# Altium footprint library CONN_TBLOCK_8P25to15P0.PcbLib: 118 footprints (part 3 of 8)
Each footprint in its own frame and in the unit in brackets; x right, y up, seen from the top. Pads: shape width x height; smd on the part's side, far side on the other; paste and mask are expansions set on the pad; w line width, h text height; cw(c..) or ccw(c..) is an arc to the next point about the centre after c.
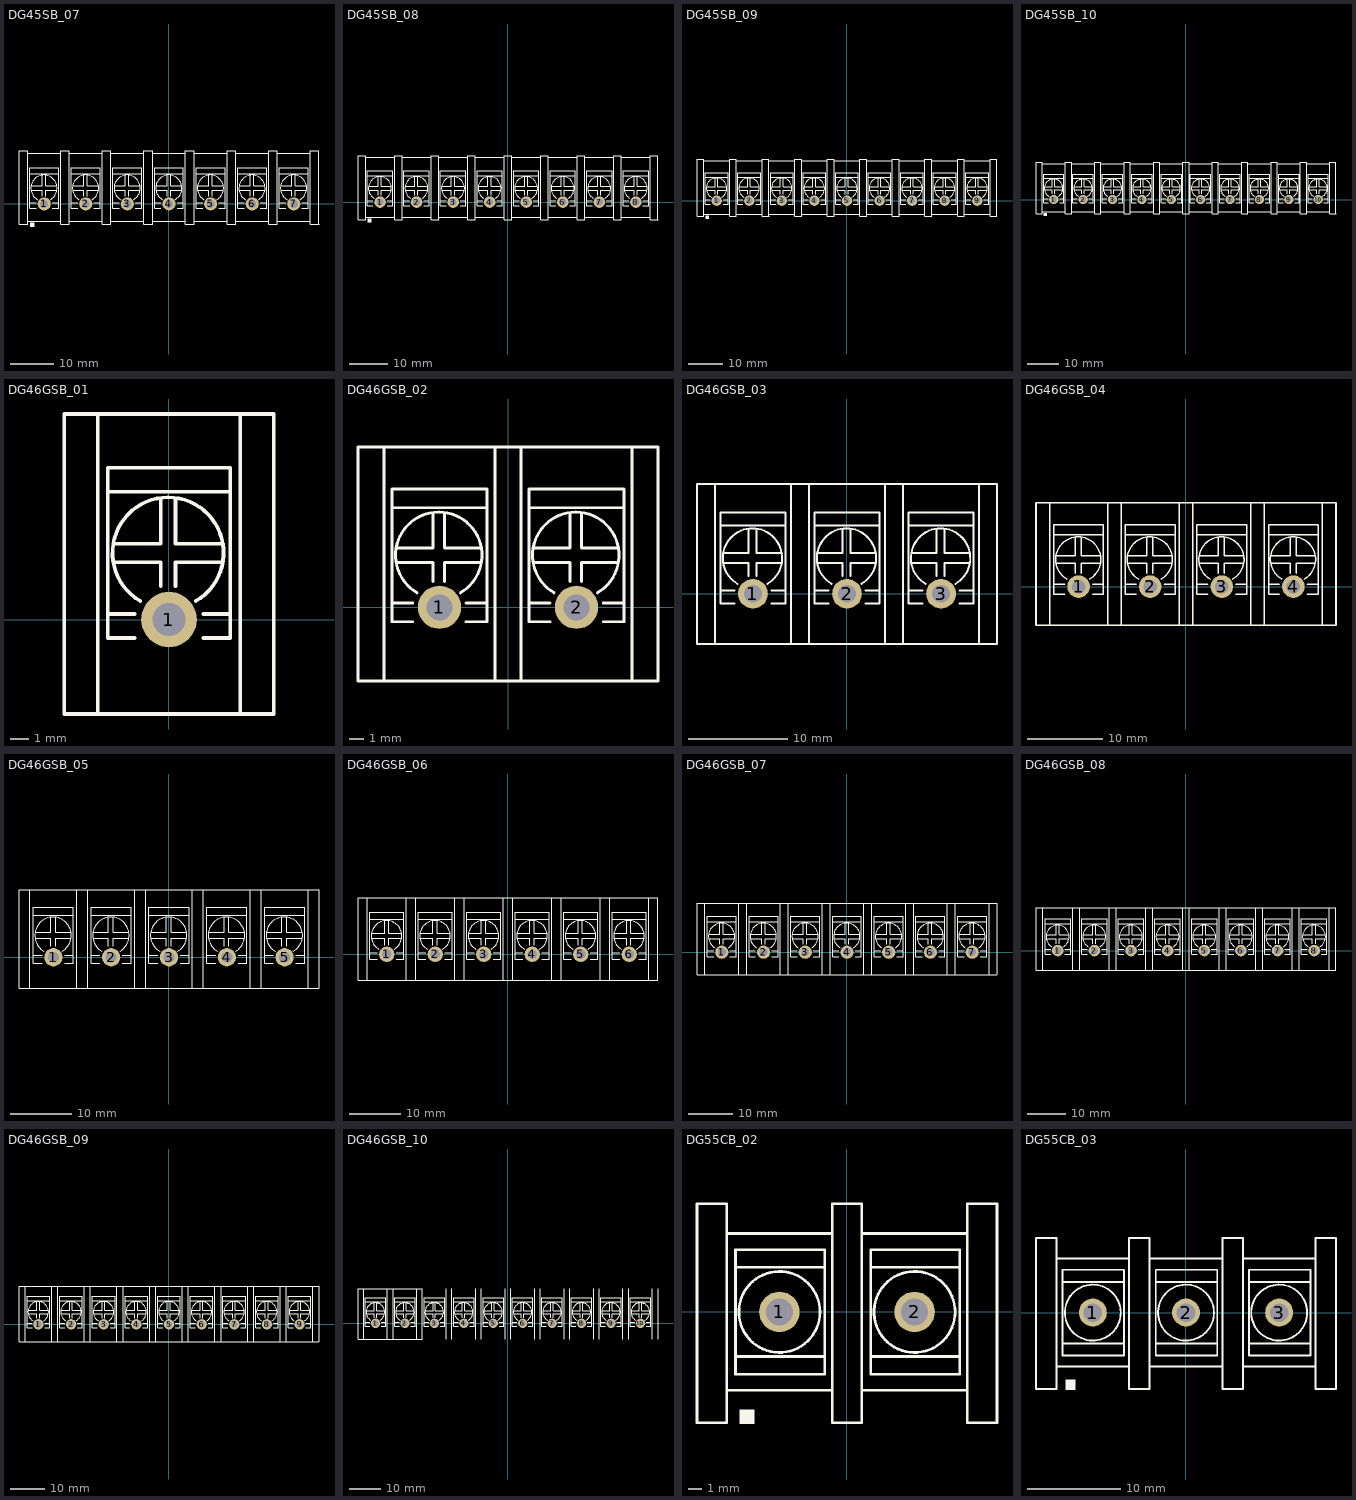
[diagram p2: the footprints below, top view; thin cyan lines are the x and y axes]

## DG45SB_07 [mm] "Terminal Block Screw, Pitch 9.5mm, 20A/300v"
height 20
pads (7):
  round 3 / inner round 3 / far side oval 3.5x5 hole 1.8: 1(-28.5,0) 2(-19,0) 3(-9.5,0) 4(0,0) 5(9.5,0) 6(19,0) 7(28.5,0)
Top Overlay:
  drawing of 166 lines, arcs and shapes, not listed
3D body "DG45S-03.STEP": height 18.5, standoff -4.99, extent -34.275,-4.5 -3.7,12
3D body "DG45S-03.STEP": height 18.5, standoff -4.99, extent -5.775,-4.5 24.8,12
3D body "DG45S-03.STEP": height 18.5, standoff -4.99, extent 3.725,-4.5 34.3,12

## DG45SB_08 [mm] "Terminal Block Screw, Pitch 9.5mm, 20A/300v"
height 20
pads (8):
  round 3 / inner round 3 / far side oval 3.5x5 hole 1.8: 1(-33.25,0) 2(-23.75,0) 3(-14.25,0) 4(-4.75,0) 5(4.75,0) 6(14.25,0) 7(23.75,0) 8(33.25,0)
Top Overlay:
  drawing of 189 lines, arcs and shapes, not listed
3D body "DG45S-03.STEP": height 18.5, standoff -4.99, extent -39.025,-4.5 -8.45,12
3D body "DG45S-03.STEP": height 18.5, standoff -4.99, extent -10.525,-4.5 20.05,12
3D body "DG45S-03.STEP": height 18.5, standoff -4.99, extent 8.475,-4.5 39.05,12

## DG45SB_09 [mm] "Terminal Block Screw, Pitch 9.5mm, 20A/300v"
height 20
pads (9):
  round 3 / inner round 3 / far side oval 3.5x5 hole 1.8: 1(-38,0) 2(-28.5,0) 3(-19,0) 4(-9.5,0) 5(0,0) 6(9.5,0) 7(19,0) 8(28.5,0) 9(38,0)
Top Overlay:
  drawing of 212 lines, arcs and shapes, not listed
3D body "DG45S-03.STEP": height 18.5, standoff -4.99, extent -43.775,-4.5 -13.2,12
3D body "DG45S-03.STEP": height 18.5, standoff -4.99, extent -15.275,-4.5 15.3,12
3D body "DG45S-03.STEP": height 18.5, standoff -4.99, extent 13.225,-4.5 43.8,12

## DG45SB_10 [mm] "Terminal Block Screw, Pitch 9.5mm, 20A/300v"
height 20
pads (10):
  round 3 / inner round 3 / far side oval 3.5x5 hole 1.8: 1(-42.75,0) 2(-33.25,0) 3(-23.75,0) 4(-14.25,0) 5(-4.75,0) 6(4.75,0) 7(14.25,0) 8(23.75,0) 9(33.25,0) 10(42.75,0)
Top Overlay:
  drawing of 235 lines, arcs and shapes, not listed
3D body "DG45S-03.STEP": height 18.5, standoff -4.99, extent -48.525,-4.5 -17.95,12
3D body "DG45S-03.STEP": height 18.5, standoff -4.99, extent -20.025,-4.5 10.55,12
3D body "DG45S-03.STEP": height 18.5, standoff -4.99, extent 8.475,-4.5 39.05,12
3D body "DG45S-03.STEP": height 18.5, standoff -4.99, extent 17.975,-4.5 48.55,12

## DG46GSB_01 [mm] "Terminal Block Screw, Pitch 9.5mm, 20A/300v, DG46GS-B,"
height 17
pads (1):
  round 3 / inner round 3 / far side oval 3.5x5 hole 1.8: 1(0,0)
Top Overlay:
  lines w0.2: -3.85,-5.1 -3.85,11.1 ; -3.3,0.3 -1.85,0.3 ; -3.3,6.9 3.3,6.9 ; -2.95,3.1 -0.45,3.1 -0.45,1.8 ; -2.95,4.1 -0.45,4.1 -0.45,6.5 ; -1.85,-1 -3.3,-1 -3.3,8.2 3.3,8.2 3.3,-1 1.85,-1 ; -1.55,1.002 cw(c-0.05,3.6) 1.45,1.002 ; 0.35,1.8 0.35,3.1 2.85,3.1 ; 0.35,6.5 0.35,4.1 2.85,4.1 ; 1.85,0.3 3.3,0.3 ; 3.85,-5.1 3.85,11.1 ; -5.65,-5.1 -5.65,11.1 5.65,11.1 5.65,-5.1 -5.65,-5.1
3D body "1-Pin - Terminal Block - 9.5mm Pitch.step": height 16.5, standoff -3.7, extent -5.502,-5 5.558,11

## DG46GSB_02 [mm] "Terminal Block Screw, Pitch 9.5mm, 20A/300v, DG46GS-B,"
height 17
pads (2):
  round 3 / inner round 3 / far side oval 3.5x5 hole 1.8: 1(-4.75,0) 2(4.75,0)
Top Overlay:
  lines w0.2: -8.6,-5.1 -8.6,11.1 ; -8.05,0.3 -6.6,0.3 ; -8.05,6.9 -1.45,6.9 ; -7.7,3.1 -5.2,3.1 -5.2,1.8 ; -7.7,4.1 -5.2,4.1 -5.2,6.5 ; -6.6,-1 -8.05,-1 -8.05,8.2 -1.45,8.2 -1.45,-1 -2.9,-1 ; -6.3,1.002 cw(c-4.8,3.6) -3.3,1.002 ; -4.4,1.8 -4.4,3.1 -1.9,3.1 ; -4.4,6.5 -4.4,4.1 -1.9,4.1 ; -2.9,0.3 -1.45,0.3 ; -0.9,-5.1 -0.9,11.1 ; 0.9,-5.1 0.9,11.1 ; 1.45,0.3 2.9,0.3 ; 1.45,6.9 8.05,6.9 ; 1.8,3.1 4.3,3.1 4.3,1.8 ; 1.8,4.1 4.3,4.1 4.3,6.5 ; 2.9,-1 1.45,-1 1.45,8.2 8.05,8.2 8.05,-1 6.6,-1 ; 3.2,1.002 cw(c4.7,3.6) 6.2,1.002 ; 5.1,1.8 5.1,3.1 7.6,3.1 ; 5.1,6.5 5.1,4.1 7.6,4.1 ; 6.6,0.3 8.05,0.3 ; 8.6,-5.1 8.6,11.1 ; -10.4,-5.1 -10.4,11.1 10.4,11.1 10.4,-5.1 -10.4,-5.1
3D body "2-Pin - Terminal Block - 9.5mm Pitch.step": height 16.5, standoff -3.7, extent -10.308,-5 10.308,11

## DG46GSB_03 [mm] "Terminal Block Screw, Pitch 9.5mm, 20A/300v, DG46GS-B,"
height 17
pads (3):
  round 3 / inner round 3 / far side oval 3.5x5 hole 1.8: 1(-9.5,0) 2(0,0) 3(9.5,0)
Top Overlay:
  lines w0.2: -13.35,-5.1 -13.35,11.1 ; -12.8,0.3 -11.35,0.3 ; -12.8,6.9 -6.2,6.9 ; -12.45,3.1 -9.95,3.1 -9.95,1.8 ; -12.45,4.1 -9.95,4.1 -9.95,6.5 ; -11.35,-1 -12.8,-1 -12.8,8.2 -6.2,8.2 -6.2,-1 -7.65,-1 ; -11.05,1.002 cw(c-9.55,3.6) -8.05,1.002 ; -9.15,1.8 -9.15,3.1 -6.65,3.1 ; -9.15,6.5 -9.15,4.1 -6.65,4.1 ; -7.65,0.3 -6.2,0.3 ; -5.65,-5.1 -5.65,11.1 ; -3.85,-5.1 -3.85,11.1 ; -3.3,0.3 -1.85,0.3 ; -3.3,6.9 3.3,6.9 ; -2.95,3.1 -0.45,3.1 -0.45,1.8 ; -2.95,4.1 -0.45,4.1 -0.45,6.5 ; -1.85,-1 -3.3,-1 -3.3,8.2 3.3,8.2 3.3,-1 1.85,-1 ; -1.55,1.002 cw(c-0.05,3.6) 1.45,1.002 ; 0.35,1.8 0.35,3.1 2.85,3.1 ; 0.35,6.5 0.35,4.1 2.85,4.1 ; 1.85,0.3 3.3,0.3 ; 3.85,-5.1 3.85,11.1 ; 5.65,-5.1 5.65,11.1 ; 6.2,0.3 7.65,0.3 ; 6.2,6.9 12.8,6.9 ; 6.55,3.1 9.05,3.1 9.05,1.8 ; 6.55,4.1 9.05,4.1 9.05,6.5 ; 7.65,-1 6.2,-1 6.2,8.2 12.8,8.2 12.8,-1 11.35,-1 ; 7.95,1.002 cw(c9.45,3.6) 10.95,1.002 ; 9.85,1.8 9.85,3.1 12.35,3.1 ; 9.85,6.5 9.85,4.1 12.35,4.1 ; 11.35,0.3 12.8,0.3 ; 13.35,-5.1 13.35,11.1 ; -15.15,-5.1 -15.15,11.1 15.15,11.1 15.15,-5.1 -15.15,-5.1
3D body "3-Pin - Terminal Block - 9.5mm Pitch.step": height 16.5, standoff -3.7, extent -15.112,-5 15.058,11

## DG46GSB_04 [mm] "Terminal Block Screw, Pitch 9.5mm, 20A/300v, DG46GS-B,"
height 17
pads (4):
  round 3 / inner round 3 / far side oval 3.5x5 hole 1.8: 1(-14.25,0) 2(-4.75,0) 3(4.75,0) 4(14.25,0)
Top Overlay:
  lines w0.2: -18.1,-5.1 -18.1,11.1 ; -17.55,0.3 -16.1,0.3 ; -17.55,6.9 -10.95,6.9 ; -17.2,3.1 -14.7,3.1 -14.7,1.8 ; -17.2,4.1 -14.7,4.1 -14.7,6.5 ; -16.1,-1 -17.55,-1 -17.55,8.2 -10.95,8.2 -10.95,-1 -12.4,-1 ; -15.8,1.002 cw(c-14.3,3.6) -12.8,1.002 ; -13.9,1.8 -13.9,3.1 -11.4,3.1 ; -13.9,6.5 -13.9,4.1 -11.4,4.1 ; -12.4,0.3 -10.95,0.3 ; -10.4,-5.1 -10.4,11.1 ; -8.6,-5.1 -8.6,11.1 ; -8.05,0.3 -6.6,0.3 ; -8.05,6.9 -1.45,6.9 ; -7.7,3.1 -5.2,3.1 -5.2,1.8 ; -7.7,4.1 -5.2,4.1 -5.2,6.5 ; -6.6,-1 -8.05,-1 -8.05,8.2 -1.45,8.2 -1.45,-1 -2.9,-1 ; -6.3,1.002 cw(c-4.8,3.6) -3.3,1.002 ; -4.4,1.8 -4.4,3.1 -1.9,3.1 ; -4.4,6.5 -4.4,4.1 -1.9,4.1 ; -2.9,0.3 -1.45,0.3 ; -0.9,-5.1 -0.9,11.1 ; 0.9,-5.1 0.9,11.1 ; 1.45,0.3 2.9,0.3 ; 1.45,6.9 8.05,6.9 ; 1.8,3.1 4.3,3.1 4.3,1.8 ; 1.8,4.1 4.3,4.1 4.3,6.5 ; 2.9,-1 1.45,-1 1.45,8.2 8.05,8.2 8.05,-1 6.6,-1 ; 3.2,1.002 cw(c4.7,3.6) 6.2,1.002 ; 5.1,1.8 5.1,3.1 7.6,3.1 ; 5.1,6.5 5.1,4.1 7.6,4.1 ; 6.6,0.3 8.05,0.3 ; 8.6,-5.1 8.6,11.1 ; 10.4,-5.1 10.4,11.1 ; 10.95,0.3 12.4,0.3 ; 10.95,6.9 17.55,6.9 ; 11.3,3.1 13.8,3.1 13.8,1.8 ; 11.3,4.1 13.8,4.1 13.8,6.5 ; 12.4,-1 10.95,-1 10.95,8.2 17.55,8.2 17.55,-1 16.1,-1 ; 12.7,1.002 cw(c14.2,3.6) 15.7,1.002 ; 14.6,1.8 14.6,3.1 17.1,3.1 ; 14.6,6.5 14.6,4.1 17.1,4.1 ; 16.1,0.3 17.55,0.3 ; 18.1,-5.1 18.1,11.1 ; -19.9,-5.1 -19.9,11.1 19.9,11.1 19.9,-5.1 -19.9,-5.1
3D body "4-Pin - Terminal Block - 9.5mm Pitch.step": height 16.5, standoff -3.7, extent -19.917,-5 19.808,11

## DG46GSB_05 [mm] "Terminal Block Screw, Pitch 9.5mm, 20A/300v, DG46GS-B,"
height 17
pads (5):
  round 3 / inner round 3 / far side oval 3.5x5 hole 1.8: 1(-19,0) 2(-9.5,0) 3(0,0) 4(9.5,0) 5(19,0)
Top Overlay:
  lines w0.2: -22.85,-5.1 -22.85,11.1 ; -22.3,0.3 -20.85,0.3 ; -22.3,6.9 -15.7,6.9 ; -21.95,3.1 -19.45,3.1 -19.45,1.8 ; -21.95,4.1 -19.45,4.1 -19.45,6.5 ; -20.85,-1 -22.3,-1 -22.3,8.2 -15.7,8.2 -15.7,-1 -17.15,-1 ; -20.55,1.002 cw(c-19.05,3.6) -17.55,1.002 ; -18.65,1.8 -18.65,3.1 -16.15,3.1 ; -18.65,6.5 -18.65,4.1 -16.15,4.1 ; -17.15,0.3 -15.7,0.3 ; -15.15,-5.1 -15.15,11.1 ; -13.35,-5.1 -13.35,11.1 ; -12.8,0.3 -11.35,0.3 ; -12.8,6.9 -6.2,6.9 ; -12.45,3.1 -9.95,3.1 -9.95,1.8 ; -12.45,4.1 -9.95,4.1 -9.95,6.5 ; -11.35,-1 -12.8,-1 -12.8,8.2 -6.2,8.2 -6.2,-1 -7.65,-1 ; -11.05,1.002 cw(c-9.55,3.6) -8.05,1.002 ; -9.15,1.8 -9.15,3.1 -6.65,3.1 ; -9.15,6.5 -9.15,4.1 -6.65,4.1 ; -7.65,0.3 -6.2,0.3 ; -5.65,-5.1 -5.65,11.1 ; -3.85,-5.1 -3.85,11.1 ; -3.3,0.3 -1.85,0.3 ; -3.3,6.9 3.3,6.9 ; -2.95,3.1 -0.45,3.1 -0.45,1.8 ; -2.95,4.1 -0.45,4.1 -0.45,6.5 ; -1.85,-1 -3.3,-1 -3.3,8.2 3.3,8.2 3.3,-1 1.85,-1 ; -1.55,1.002 cw(c-0.05,3.6) 1.45,1.002 ; 0.35,1.8 0.35,3.1 2.85,3.1 ; 0.35,6.5 0.35,4.1 2.85,4.1 ; 1.85,0.3 3.3,0.3 ; 3.85,-5.1 3.85,11.1 ; 5.65,-5.1 5.65,11.1 ; 6.2,0.3 7.65,0.3 ; 6.2,6.9 12.8,6.9 ; 6.55,3.1 9.05,3.1 9.05,1.8 ; 6.55,4.1 9.05,4.1 9.05,6.5 ; 7.65,-1 6.2,-1 6.2,8.2 12.8,8.2 12.8,-1 11.35,-1 ; 7.95,1.002 cw(c9.45,3.6) 10.95,1.002 ; 9.85,1.8 9.85,3.1 12.35,3.1 ; 9.85,6.5 9.85,4.1 12.35,4.1 ; 11.35,0.3 12.8,0.3 ; 13.35,-5.1 13.35,11.1 ; 15.15,-5.1 15.15,11.1 ; 15.7,0.3 17.15,0.3 ; 15.7,6.9 22.3,6.9 ; 16.05,3.1 18.55,3.1 18.55,1.8 ; 16.05,4.1 18.55,4.1 18.55,6.5 ; 17.15,-1 15.7,-1 15.7,8.2 22.3,8.2 22.3,-1 20.85,-1 ; 17.45,1.002 cw(c18.95,3.6) 20.45,1.002 ; 19.35,1.8 19.35,3.1 21.85,3.1 ; 19.35,6.5 19.35,4.1 21.85,4.1 ; 20.85,0.3 22.3,0.3 ; 22.85,-5.1 22.85,11.1 ; -24.65,-5.1 -24.65,11.1 24.65,11.1 24.65,-5.1 -24.65,-5.1
3D body "5-Pin - Terminal Block - 9.5mm Pitch.step": height 16.5, standoff -3.7, extent -24.723,-5 24.558,11

## DG46GSB_06 [mm] "Terminal Block Screw, Pitch 9.5mm, 20A/300v, DG46GS-B,"
height 17
pads (6):
  round 3 / inner round 3 / far side oval 3.5x5 hole 1.8: 1(-23.75,0) 2(-14.25,0) 3(-4.75,0) 4(4.75,0) 5(14.25,0) 6(23.75,0)
Top Overlay:
  lines w0.2: -27.6,-5.1 -27.6,11.1 ; -27.05,0.3 -25.6,0.3 ; -27.05,6.9 -20.45,6.9 ; -26.7,3.1 -24.2,3.1 -24.2,1.8 ; -26.7,4.1 -24.2,4.1 -24.2,6.5 ; -25.6,-1 -27.05,-1 -27.05,8.2 -20.45,8.2 -20.45,-1 -21.9,-1 ; -25.3,1.002 cw(c-23.8,3.6) -22.3,1.002 ; -23.4,1.8 -23.4,3.1 -20.9,3.1 ; -23.4,6.5 -23.4,4.1 -20.9,4.1 ; -21.9,0.3 -20.45,0.3 ; -19.9,-5.1 -19.9,11.1 ; -18.1,-5.1 -18.1,11.1 ; -17.55,0.3 -16.1,0.3 ; -17.55,6.9 -10.95,6.9 ; -17.2,3.1 -14.7,3.1 -14.7,1.8 ; -17.2,4.1 -14.7,4.1 -14.7,6.5 ; -16.1,-1 -17.55,-1 -17.55,8.2 -10.95,8.2 -10.95,-1 -12.4,-1 ; -15.8,1.002 cw(c-14.3,3.6) -12.8,1.002 ; -13.9,1.8 -13.9,3.1 -11.4,3.1 ; -13.9,6.5 -13.9,4.1 -11.4,4.1 ; -12.4,0.3 -10.95,0.3 ; -10.4,-5.1 -10.4,11.1 ; -8.6,-5.1 -8.6,11.1 ; -8.05,0.3 -6.6,0.3 ; -8.05,6.9 -1.45,6.9 ; -7.7,3.1 -5.2,3.1 -5.2,1.8 ; -7.7,4.1 -5.2,4.1 -5.2,6.5 ; -6.6,-1 -8.05,-1 -8.05,8.2 -1.45,8.2 -1.45,-1 -2.9,-1 ; -6.3,1.002 cw(c-4.8,3.6) -3.3,1.002 ; -4.4,1.8 -4.4,3.1 -1.9,3.1 ; -4.4,6.5 -4.4,4.1 -1.9,4.1 ; -2.9,0.3 -1.45,0.3 ; -0.9,-5.1 -0.9,11.1 ; 0.9,-5.1 0.9,11.1 ; 1.45,0.3 2.9,0.3 ; 1.45,6.9 8.05,6.9 ; 1.8,3.1 4.3,3.1 4.3,1.8 ; 1.8,4.1 4.3,4.1 4.3,6.5 ; 2.9,-1 1.45,-1 1.45,8.2 8.05,8.2 8.05,-1 6.6,-1 ; 3.2,1.002 cw(c4.7,3.6) 6.2,1.002 ; 5.1,1.8 5.1,3.1 7.6,3.1 ; 5.1,6.5 5.1,4.1 7.6,4.1 ; 6.6,0.3 8.05,0.3 ; 8.6,-5.1 8.6,11.1 ; 10.4,-5.1 10.4,11.1 ; 10.95,0.3 12.4,0.3 ; 10.95,6.9 17.55,6.9 ; 11.3,3.1 13.8,3.1 13.8,1.8 ; 11.3,4.1 13.8,4.1 13.8,6.5 ; 12.4,-1 10.95,-1 10.95,8.2 17.55,8.2 17.55,-1 16.1,-1 ; 12.7,1.002 cw(c14.2,3.6) 15.7,1.002 ; 14.6,1.8 14.6,3.1 17.1,3.1 ; 14.6,6.5 14.6,4.1 17.1,4.1 ; 16.1,0.3 17.55,0.3 ; 18.1,-5.1 18.1,11.1 ; 19.9,-5.1 19.9,11.1 ; 20.45,0.3 21.9,0.3 ; 20.45,6.9 27.05,6.9 ; 20.8,3.1 23.3,3.1 23.3,1.8 ; 20.8,4.1 23.3,4.1 23.3,6.5 ; 21.9,-1 20.45,-1 20.45,8.2 27.05,8.2 27.05,-1 25.6,-1 ; 22.2,1.002 cw(c23.7,3.6) 25.2,1.002 ; 24.1,1.8 24.1,3.1 26.6,3.1 ; 24.1,6.5 24.1,4.1 26.6,4.1 ; 25.6,0.3 27.05,0.3 ; 27.6,-5.1 27.6,11.1 ; -29.4,-5.1 29.4,-5.1 29.4,11.1 -29.4,11.1 -29.4,-5.1
3D body "6-Pin - Terminal Block - 9.5mm Pitch.step": height 16.5, standoff -3.7, extent -29.527,-5 29.308,11

## DG46GSB_07 [mm] "Terminal Block Screw, Pitch 9.5mm, 20A/300v, DG46GS-B,"
height 17
pads (7):
  round 3 / inner round 3 / far side oval 3.5x5 hole 1.8: 1(-28.5,0) 2(-19,0) 3(-9.5,0) 4(0,0) 5(9.5,0) 6(19,0) 7(28.5,0)
Top Overlay:
  lines w0.2: -32.35,-5.1 -32.35,11.1 ; -31.8,0.3 -30.35,0.3 ; -31.8,6.9 -25.2,6.9 ; -31.45,3.1 -28.95,3.1 -28.95,1.8 ; -31.45,4.1 -28.95,4.1 -28.95,6.5 ; -30.35,-1 -31.8,-1 -31.8,8.2 -25.2,8.2 -25.2,-1 -26.65,-1 ; -30.05,1.002 cw(c-28.55,3.6) -27.05,1.002 ; -28.15,1.8 -28.15,3.1 -25.65,3.1 ; -28.15,6.5 -28.15,4.1 -25.65,4.1 ; -26.65,0.3 -25.2,0.3 ; -24.65,-5.1 -24.65,11.1 ; -22.85,-5.1 -22.85,11.1 ; -22.3,0.3 -20.85,0.3 ; -22.3,6.9 -15.7,6.9 ; -21.95,3.1 -19.45,3.1 -19.45,1.8 ; -21.95,4.1 -19.45,4.1 -19.45,6.5 ; -20.85,-1 -22.3,-1 -22.3,8.2 -15.7,8.2 -15.7,-1 -17.15,-1 ; -20.55,1.002 cw(c-19.05,3.6) -17.55,1.002 ; -18.65,1.8 -18.65,3.1 -16.15,3.1 ; -18.65,6.5 -18.65,4.1 -16.15,4.1 ; -17.15,0.3 -15.7,0.3 ; -15.15,-5.1 -15.15,11.1 ; -13.35,-5.1 -13.35,11.1 ; -12.8,0.3 -11.35,0.3 ; -12.8,6.9 -6.2,6.9 ; -12.45,3.1 -9.95,3.1 -9.95,1.8 ; -12.45,4.1 -9.95,4.1 -9.95,6.5 ; -11.35,-1 -12.8,-1 -12.8,8.2 -6.2,8.2 -6.2,-1 -7.65,-1 ; -11.05,1.002 cw(c-9.55,3.6) -8.05,1.002 ; -9.15,1.8 -9.15,3.1 -6.65,3.1 ; -9.15,6.5 -9.15,4.1 -6.65,4.1 ; -7.65,0.3 -6.2,0.3 ; -5.65,-5.1 -5.65,11.1 ; -3.85,-5.1 -3.85,11.1 ; -3.3,0.3 -1.85,0.3 ; -3.3,6.9 3.3,6.9 ; -2.95,3.1 -0.45,3.1 -0.45,1.8 ; -2.95,4.1 -0.45,4.1 -0.45,6.5 ; -1.85,-1 -3.3,-1 -3.3,8.2 3.3,8.2 3.3,-1 1.85,-1 ; -1.55,1.002 cw(c-0.05,3.6) 1.45,1.002 ; 0.35,1.8 0.35,3.1 2.85,3.1 ; 0.35,6.5 0.35,4.1 2.85,4.1 ; 1.85,0.3 3.3,0.3 ; 3.85,-5.1 3.85,11.1 ; 5.65,-5.1 5.65,11.1 ; 6.2,0.3 7.65,0.3 ; 6.2,6.9 12.8,6.9 ; 6.55,3.1 9.05,3.1 9.05,1.8 ; 6.55,4.1 9.05,4.1 9.05,6.5 ; 7.65,-1 6.2,-1 6.2,8.2 12.8,8.2 12.8,-1 11.35,-1 ; 7.95,1.002 cw(c9.45,3.6) 10.95,1.002 ; 9.85,1.8 9.85,3.1 12.35,3.1 ; 9.85,6.5 9.85,4.1 12.35,4.1 ; 11.35,0.3 12.8,0.3 ; 13.35,-5.1 13.35,11.1 ; 15.15,-5.1 15.15,11.1 ; 15.7,0.3 17.15,0.3 ; 15.7,6.9 22.3,6.9 ; 16.05,3.1 18.55,3.1 18.55,1.8 ; 16.05,4.1 18.55,4.1 18.55,6.5 ; 17.15,-1 15.7,-1 15.7,8.2 22.3,8.2 22.3,-1 20.85,-1 ; 17.45,1.002 cw(c18.95,3.6) 20.45,1.002 ; 19.35,1.8 19.35,3.1 21.85,3.1 ; 19.35,6.5 19.35,4.1 21.85,4.1 ; 20.85,0.3 22.3,0.3 ; 22.85,-5.1 22.85,11.1 ; 24.65,-5.1 24.65,11.1 ; 25.2,0.3 26.65,0.3 ; 25.2,6.9 31.8,6.9 ; 25.55,3.1 28.05,3.1 28.05,1.8 ; 25.55,4.1 28.05,4.1 28.05,6.5 ; 26.65,-1 25.2,-1 25.2,8.2 31.8,8.2 31.8,-1 30.35,-1 ; 26.95,1.002 cw(c28.45,3.6) 29.95,1.002 ; 28.85,1.8 28.85,3.1 31.35,3.1 ; 28.85,6.5 28.85,4.1 31.35,4.1 ; 30.35,0.3 31.8,0.3 ; 32.35,-5.1 32.35,11.1 ; -34.15,-5.1 -34.15,11.1 34.15,11.1 34.15,-5.1 -34.15,-5.1
3D body "7-Pin - Terminal Block - 9.5mm Pitch.step": height 16.5, standoff -3.7, extent -34.342,-5 34.058,11

## DG46GSB_08 [mm] "Terminal Block Screw, Pitch 9.5mm, 20A/300v, DG46GS-B,"
height 17
pads (8):
  round 3 / inner round 3 / far side oval 3.5x5 hole 1.8: 1(-33.25,0) 2(-23.75,0) 3(-14.25,0) 4(-4.75,0) 5(4.75,0) 6(14.25,0) 7(23.75,0) 8(33.25,0)
Top Overlay:
  drawing of 156 lines, arcs and shapes, not listed
3D body "8-Pin - Terminal Block - 9.5mm Pitch.step": height 16.5, standoff -3.7, extent -39.137,-5 38.808,11

## DG46GSB_09 [mm] "Terminal Block Screw, Pitch 9.5mm, 20A/300v, DG46GS-B,"
height 17
pads (9):
  round 3 / inner round 3 / far side oval 3.5x5 hole 1.8: 1(-38,0) 2(-28.5,0) 3(-19,0) 4(-9.5,0) 5(0,0) 6(9.5,0) 7(19,0) 8(28.5,0) 9(38,0)
Top Overlay:
  drawing of 175 lines, arcs and shapes, not listed
3D body "9-Pin - Terminal Block - 9.5mm Pitch.step": height 16.5, standoff -3.7, extent -43.942,-5 43.558,11

## DG46GSB_10 [mm] "Terminal Block Screw, Pitch 9.5mm, 20A/300v, DG46GS-B,"
height 17
pads (10):
  round 3 / inner round 3 / far side oval 3.5x5 hole 1.8: 1(-42.75,0) 2(-33.25,0) 3(-23.75,0) 4(-14.25,0) 5(-4.75,0) 6(4.75,0) 7(14.25,0) 8(23.75,0) 9(33.25,0) 10(42.75,0)
Top Overlay:
  drawing of 194 lines, arcs and shapes, not listed
3D body "9-Pin - Terminal Block - 9.5mm Pitch.step": height 16.5, standoff -3.7, extent -39.192,-5 48.308,11
3D body "1-Pin - Terminal Block - 9.5mm Pitch.step": height 16.5, standoff -3.7, extent -48.252,-5 -37.192,11

## DG55CB_02 [mm] "Terminal Block Screw, Pitch 10mm, 20A/300v, DG55C-B= KF55"
height 18.4
pads (2):
  round 3 / inner round 3 / far side oval 3.5x5 hole 2: 1(-5,0) 2(5,0)
Top Overlay:
  circle w0.2: c-5,0 r3
  circle w0.2: c5,0 r3
  rectangle: -7.95,-8.3 -6.85,-7.2
  lines w0.2: -8.9,-5.8 -1.1,-5.8 ; -8.9,5.8 -1.1,5.8 ; -8.25,-3.3 -1.65,-3.3 ; -8.25,3.3 -1.65,3.3 ; 1.1,-5.8 8.9,-5.8 ; 1.1,5.8 8.9,5.8 ; 1.75,-3.3 8.35,-3.3 ; 1.75,3.3 8.35,3.3 ; -11.1,-8.2 -8.9,-8.2 -8.9,8 -11.1,8 -11.1,-8.2 ; -8.25,-4.6 -1.65,-4.6 -1.65,4.6 -8.25,4.6 -8.25,-4.6 ; -1.1,-8.2 -1.1,8 1.1,8 1.1,-8.2 -1.1,-8.2 ; 1.75,-4.6 8.35,-4.6 8.35,4.6 1.75,4.6 1.75,-4.6 ; 8.9,-8.2 8.9,8 11.1,8 11.1,-8.2 8.9,-8.2
3D body "DG55C-02P.STEP": height 17.43, standoff -6.73, extent -11.028,-8.1 11.028,7.9

## DG55CB_03 [mm] "Terminal Block Screw, Pitch 10mm, 20A/300v, DG55C-B= KF55"
height 18.4
pads (3):
  round 3 / inner round 3 / far side oval 3.5x5 hole 2: 1(-10,0) 2(0,0) 3(10,0)
Top Overlay:
  circle w0.2: c-10,0 r3
  circle w0.2: c0,0 r3
  circle w0.2: c10,0 r3
  rectangle: -12.95,-8.3 -11.85,-7.2
  lines w0.2: -13.9,-5.8 -6.1,-5.8 ; -13.9,5.8 -6.1,5.8 ; -13.25,-3.3 -6.65,-3.3 ; -13.25,3.3 -6.65,3.3 ; -3.9,-5.8 3.9,-5.8 ; -3.9,5.8 3.9,5.8 ; -3.25,-3.3 3.35,-3.3 ; -3.25,3.3 3.35,3.3 ; 6.1,-5.8 13.9,-5.8 ; 6.1,5.8 13.9,5.8 ; 6.75,-3.3 13.35,-3.3 ; 6.75,3.3 13.35,3.3 ; -16.1,-8.2 -13.9,-8.2 -13.9,8 -16.1,8 -16.1,-8.2 ; -13.25,-4.6 -6.65,-4.6 -6.65,4.6 -13.25,4.6 -13.25,-4.6 ; -6.1,-8.2 -6.1,8 -3.9,8 -3.9,-8.2 -6.1,-8.2 ; -3.25,-4.6 3.35,-4.6 3.35,4.6 -3.25,4.6 -3.25,-4.6 ; 3.9,-8.2 3.9,8 6.1,8 6.1,-8.2 3.9,-8.2 ; 6.75,-4.6 13.35,-4.6 13.35,4.6 6.75,4.6 6.75,-4.6 ; 13.9,-8.2 13.9,8 16.1,8 16.1,-8.2 13.9,-8.2
3D body "DG55C-02P.STEP": height 17.43, standoff -6.73, extent -16.028,-8.1 6.028,7.9
3D body "DG55C-02P.STEP": height 17.43, standoff -6.73, extent -6.028,-8.1 16.028,7.9